# Altium footprint library PcbLib.PcbLib: 45 footprints (part 2 of 3)
Each footprint in its own frame and in the unit in brackets; x right, y up, seen from the top. Pads: shape width x height; smd on the part's side, far side on the other; paste and mask are expansions set on the pad; w line width, h text height; cw(c..) or ccw(c..) is an arc to the next point about the centre after c.
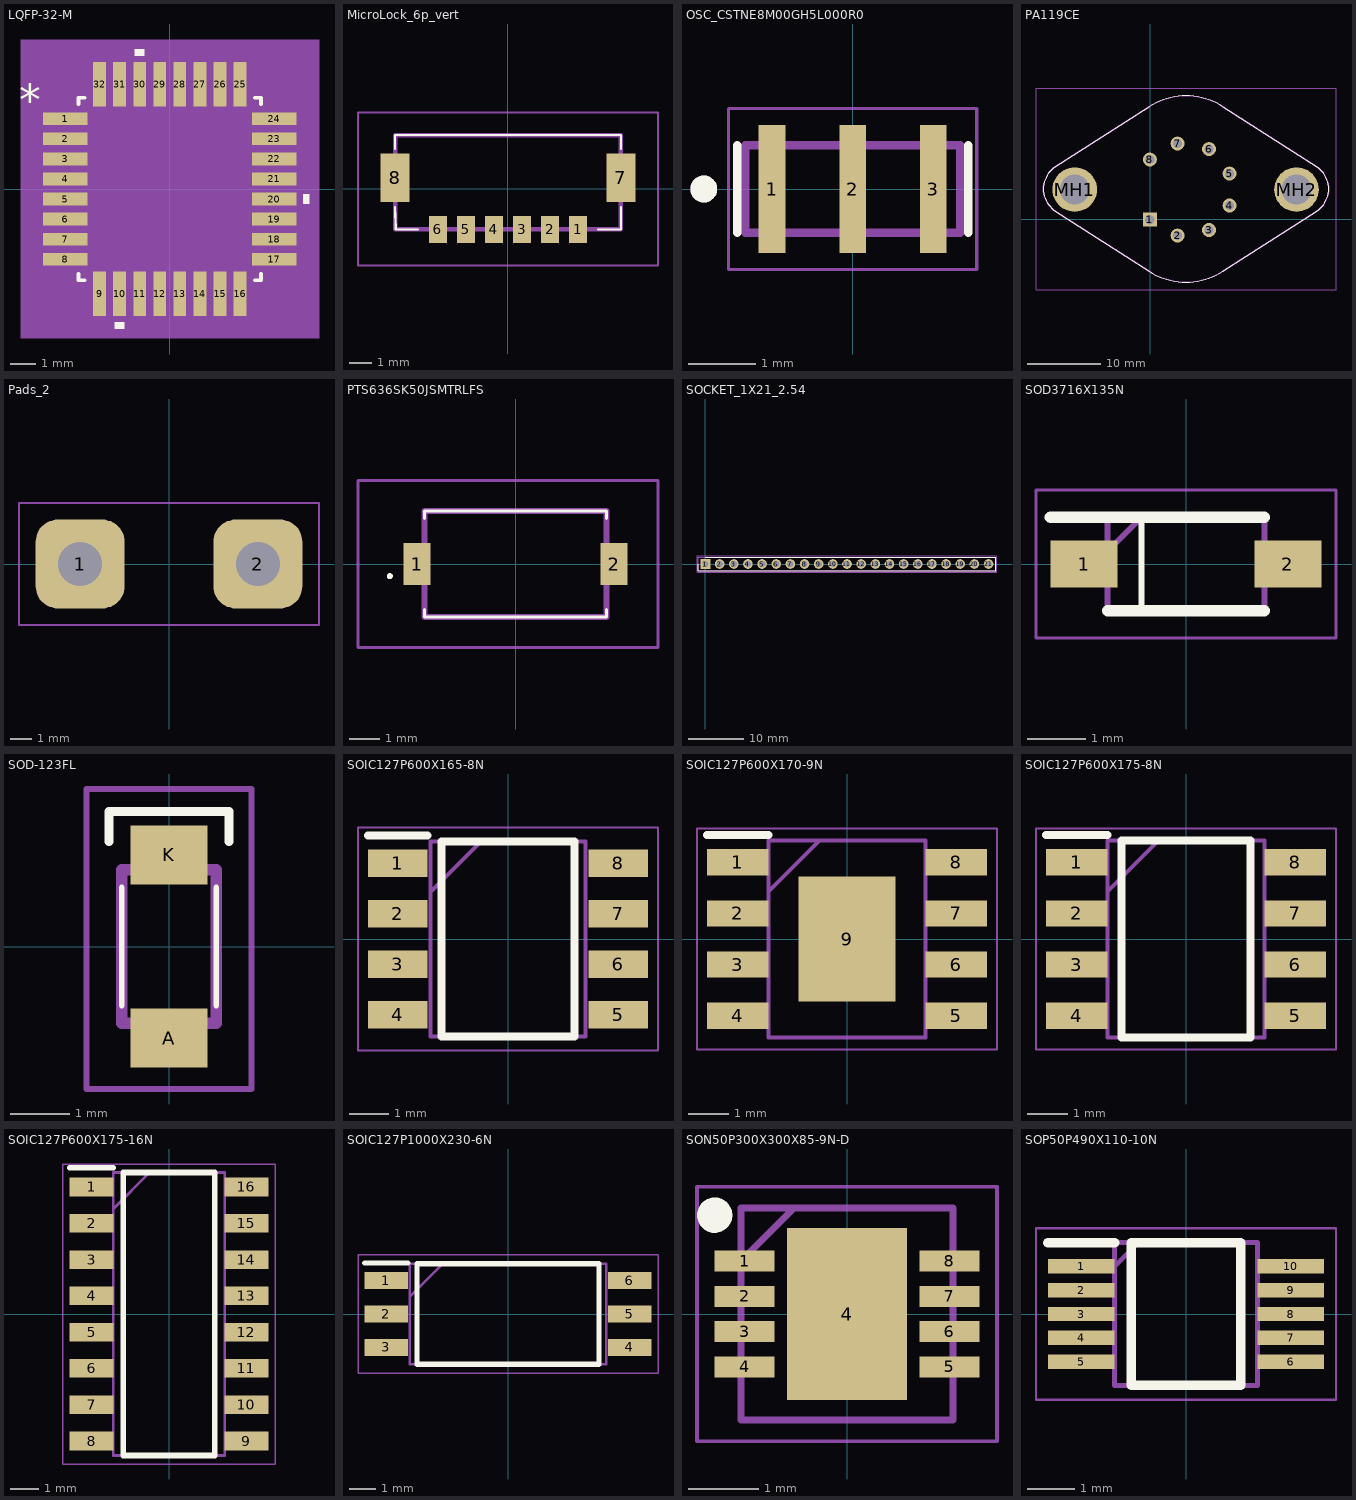
[diagram p1: the footprints below, top view; thin cyan lines are the x and y axes]

## LQFP-32-M [mil]
pads (32):
  rect 70x20 smd paste+0 mask+0: 1(-164,110.24) 2(-164,78.74) 3(-164,47.24) 4(-164,15.75) 5(-164,-15.75) 6(-164,-47.24) 7(-164,-78.74) 8(-164,-110.24) 17(164,-110.24) 18(164,-78.74) 19(164,-47.24) 20(164,-15.75) 21(164,15.75) 22(164,47.24) 23(164,78.74) 24(164,110.24)
  rect 20x70 smd paste+0 mask+0: 9(-110.24,-164) 10(-78.74,-164) 11(-47.24,-164) 12(-15.75,-164) 13(15.75,-164) 14(47.24,-164) 15(78.74,-164) 16(110.24,-164) 25(110.24,164) 26(78.74,164) 27(47.24,164) 28(15.75,164) 29(-15.75,164) 30(-47.24,164) 31(-78.74,164) 32(-110.24,164)
Top Overlay:
  region: -71.24,-209 -86.24,-209 -86.24,-219 -71.24,-219
  region: 209,-8.25 219,-8.25 219,-23.25 209,-23.25
  region: -39.74,209 -54.74,209 -54.74,219 -39.74,219
  lines w6: -143,-133.34 -143,-143 -133.34,-143 ; -143,133.34 -143,143 -133.34,143 ; 133.34,-143 143,-143 143,-133.34 ; 133.34,143 143,143 143,133.34
  text "*" at -236.5,115.98 h50
Mechanical 5:
  region: 234,-234 -234,-234 -234,234 234,234
Mechanical 13:
  lines w1: -138,88 -88,138 ; -177,-119.24 -177,-101.24 -138,-101.24 -138,-119.24 -177,-119.24 ; -177,-87.74 -177,-69.74 -138,-69.74 -138,-87.74 -177,-87.74 ; -177,-56.24 -177,-38.24 -138,-38.24 -138,-56.24 -177,-56.24 ; -177,-24.75 -177,-6.75 -138,-6.75 -138,-24.75 -177,-24.75 ; -177,6.75 -177,24.75 -138,24.75 -138,6.75 -177,6.75 ; -177,38.24 -177,56.24 -138,56.24 -138,38.24 -177,38.24 ; -177,69.74 -177,87.74 -138,87.74 -138,69.74 -177,69.74 ; -177,101.24 -177,119.24 -138,119.24 -138,101.24 -177,101.24 ; -138,-138 138,-138 138,138 -138,138 -138,-138 ; -119.24,-177 -119.24,-138 -101.24,-138 -101.24,-177 -119.24,-177 ; -119.24,138 -101.24,138 -101.24,177 -119.24,177 -119.24,138 ; -87.74,-177 -87.74,-138 -69.74,-138 -69.74,-177 -87.74,-177 ; -87.74,138 -69.74,138 -69.74,177 -87.74,177 -87.74,138 ; -56.24,-177 -56.24,-138 -38.24,-138 -38.24,-177 -56.24,-177 ; -56.24,138 -38.24,138 -38.24,177 -56.24,177 -56.24,138 ; -24.75,-177 -24.75,-138 -6.75,-138 -6.75,-177 -24.75,-177 ; -24.75,138 -6.75,138 -6.75,177 -24.75,177 -24.75,138 ; 6.75,-177 6.75,-138 24.75,-138 24.75,-177 6.75,-177 ; 6.75,138 24.75,138 24.75,177 6.75,177 6.75,138 ; 38.24,-177 38.24,-138 56.24,-138 56.24,-177 38.24,-177 ; 38.24,138 56.24,138 56.24,177 38.24,177 38.24,138 ; 69.74,-177 69.74,-138 87.74,-138 87.74,-177 69.74,-177 ; 69.74,138 87.74,138 87.74,177 69.74,177 69.74,138 ; 101.24,-177 101.24,-138 119.24,-138 119.24,-177 101.24,-177 ; 101.24,138 119.24,138 119.24,177 101.24,177 101.24,138 ; 138,-119.24 138,-101.24 177,-101.24 177,-119.24 138,-119.24 ; 138,-87.74 138,-69.74 177,-69.74 177,-87.74 138,-87.74 ; 138,-56.24 138,-38.24 177,-38.24 177,-56.24 138,-56.24 ; 138,-24.75 138,-6.75 177,-6.75 177,-24.75 138,-24.75 ; 138,6.75 138,24.75 177,24.75 177,6.75 138,6.75 ; 138,38.24 138,56.24 177,56.24 177,38.24 138,38.24 ; 138,69.74 138,87.74 177,87.74 177,69.74 138,69.74 ; 138,101.24 138,119.24 177,119.24 177,101.24 138,101.24
  text "*" at -135.5,100.98 h50
Mechanical 15:
  region: -140.24,-158 -158,-158 -158,-140.24 -219,-140.24 -219,140.24 -158,140.24 -158,158 -140.24,158 -140.24,219 140.24,219 140.24,158 158,158 158,140.24 219,140.24 219,-140.24 158,-140.24 158,-158 140.24,-158 140.24,-219 -140.24,-219
  lines w6: -219,-140.24 -158,-140.24 -158,-158 -140.24,-158 -140.24,-219 140.24,-219 140.24,-158 158,-158 158,-140.24 219,-140.24 219,140.24 158,140.24 158,158 140.24,158 140.24,219 -140.24,219 -140.24,158 -158,158 -158,140.24 -219,140.24 -219,-140.24
3D body: height 10, standoff 0, extent 0,0 10,10

## MicroLock_6p_vert [mm] "MOLEX Micro-Lock Plus 1.25mm 6pin Vertical"
pads (8):
  rect 0.8x1.2 smd: 1(3.125,-1.8) 2(1.875,-1.8) 3(0.625,-1.8) 4(-0.625,-1.8) 5(-1.875,-1.8) 6(-3.125,-1.8)
  rect 1.3x2.15 smd: 7(5.025,0.495) 8(-5.025,0.495)
Top Overlay:
  lines w0.1: -5.025,-0.8 -5,-1.8 -4,-1.8 ; -5.025,1.778 -5.025,2.4 5.025,2.4 5.025,1.778 ; 4,-1.8 5.025,-1.8 5.025,-0.8
Mechanical 15:
  lines w0.2: -5.025,-1.8 5.025,-1.8 5.025,2.4 -5.025,2.4 -5.025,-1.8
Mechanical 20:
  lines w0.1: -6.675,-3.4 6.675,-3.4 6.675,3.4 -6.675,3.4 -6.675,-3.4
3D body "5055680681.stp": height 4.2, standoff 0, extent -5.4,-2.025 5.35,1.875

## OSC_CSTNE8M00GH5L000R0 [mm]
pads (3):
  rect 0.4x1.9 smd: 1(-1.2,0) 2(0,0) 3(1.2,0)
Top Overlay:
  circle w0.2: c-2.22,0 r0.1
  lines w0.127: -1.72,-0.65 -1.72,0.65 ; 1.72,-0.65 1.72,0.65
Mechanical 13:
  circle w0.2: c-2.22,0 r0.1
  lines w0.127: -1.6,-0.65 -1.6,0.65 1.6,0.65 1.6,-0.65 -1.6,-0.65
Mechanical 15:
  lines w0.05: -1.85,-1.2 -1.85,1.2 1.85,1.2 1.85,-1.2 -1.85,-1.2
3D body "step_temp.STEP": height 0.8, standoff 0, extent -1.6,-0.65 1.6,0.65

## PA119CE [mm]
pads (10):
  rect 1.905x1.905 hole 1.27: 1(-0.051,-0.076)
  round 1.905 hole 1.27: 2(3.709,-2.246) 3(7.989,-1.496) 4(10.779,1.834) 5(10.779,6.174) 6(7.989,9.504) 7(3.709,10.254) 8(-0.051,8.084)
  round 6.06 hole 4.04: MH1(-10.261,4.004) MH2(19.879,4.004)
Top Overlay:
  lines w0.1: -12.892,7.078 ccw(c-10.96,4.08) -12.887,1.078 ; -12.89,1.08 -0.14,-7.12 ; -12.89,7.08 -0.14,15.28 ; -0.147,-7.115 ccw(c4.861,0.654) 9.854,-7.124 ; -0.133,15.284 cw(c4.861,7.505) 9.868,15.275 ; 9.86,-7.12 22.61,1.08 ; 9.86,15.28 22.61,7.08 ; 22.608,7.082 cw(c20.681,4.08) 22.613,1.082
Mechanical 13:
  lines w0.2: -12.892,7.078 ccw(c-10.96,4.08) -12.887,1.078 ; -12.89,1.08 -0.14,-7.12 ; -12.89,7.08 -0.14,15.28 ; -0.147,-7.115 ccw(c4.861,0.654) 9.854,-7.124 ; -0.133,15.284 cw(c4.861,7.505) 9.868,15.275 ; 9.86,-7.12 22.61,1.08 ; 9.86,15.28 22.61,7.08 ; 22.608,7.082 cw(c20.681,4.08) 22.613,1.082
Mechanical 15:
  lines w0.1: -15.527,-9.589 25.247,-9.589 25.247,17.749 -15.527,17.749 -15.527,-9.589
3D body "TO-3 8 pins.stp": height 22.86, standoff -23.29, extent -20.84,-16.597 31.822,27.077

## Pads_2 [mil] "2 Pads, hole 2mm"
pads (2):
  rrect50% 160x160 hole 78.74: 1(-160,0) 2(160,0)
Mechanical 15:
  lines w4: -270,-110 -270,110 270,110 270,-110 -270,-110

## PTS636SK50JSMTRLFS [mm]
pads (2):
  rect 0.9x1.4 smd: 1(-3.25,0) 2(3.25,0)
Top Overlay:
  lines w0.1: -3,-1.5 -3,-1.75 3,-1.75 3,-1.5 ; -3,1.5 -3,1.75 3,1.75 3,1.5 ; -4.2,-0.4 ccw(c-4.15,-0.4) -4.1,-0.4 ccw(c-4.15,-0.4) -4.2,-0.4
Mechanical 13:
  lines w0.2: -3,-1.75 3,-1.75 3,1.75 -3,1.75 -3,-1.75
Mechanical 15:
  lines w0.1: -5.2,-2.75 4.7,-2.75 4.7,2.75 -5.2,2.75 -5.2,-2.75
3D body "PTS636_SK50J_SMTR_LFS.stp": height 5.1, standoff 0, extent -3.61,-1.75 3.61,1.75

## SOCKET_1X21_2.54 [mm] "Socket connector 2.54mm"
pads (21):
  rect 1.725x1.725 hole 1.15: 1(0,0)
  round 1.725 hole 1.15: 2(2.54,0) 3(5.08,0) 4(7.62,0) 5(10.16,0) 6(12.7,0) 7(15.24,0) 8(17.78,0) 9(20.32,0) 10(22.86,0) 11(25.4,0) 12(27.94,0) 13(30.48,0) 14(33.02,0) 15(35.56,0) 16(38.1,0) 17(40.64,0) 18(43.18,0) 19(45.72,0) 20(48.26,0) 21(50.8,0)
Top Overlay:
  lines w0.2: -1.27,0 -1.27,-1.205 52.07,-1.205 52.07,1.205 0,1.205
Mechanical 13:
  lines w0.1: -1.27,-1.205 52.07,-1.205 52.07,1.205 -1.27,1.205 -1.27,-1.205
Mechanical 15:
  lines w0.05: -1.52,-1.455 52.32,-1.455 52.32,1.455 -1.52,1.455 -1.52,-1.455
3D body "zl262-8s_p2-54_l20-8_w2-54_h8-5.stp": height 8.5, standoff -3, extent -1.52,-1.27 19.3,1.27
3D body "zl262-8s_p2-54_l20-8_w2-54_h8-5.stp": height 8.5, standoff -3, extent 18.8,-1.27 39.62,1.27
3D body "zl262-8s_p2-54_l20-8_w2-54_h8-5.stp": height 8.5, standoff -3, extent 31.373,-1.27 52.193,1.27

## SOD3716X135N [mm]
pads (2):
  rect 1.15x0.8 smd: 1(-1.75,0) 2(1.75,0)
Top Overlay:
  lines w0.102: -0.762,-0.762 -0.762,0.762
  lines w0.2: -2.325,0.8 1.345,0.8 ; -1.345,-0.8 1.345,-0.8
Mechanical 13:
  lines w0.1: -1.345,0.225 -0.77,0.8 ; -1.345,-0.8 -1.345,0.8 1.345,0.8 1.345,-0.8 -1.345,-0.8
Mechanical 15:
  lines w0.05: -2.575,-1.27 -2.575,1.27 2.575,1.27 2.575,-1.27 -2.575,-1.27
3D body "MMSZ5240BT1G.stp": height 1.35, standoff 0, extent -1.855,-0.8 1.855,0.8

## SOD-123FL [mm] "Package 3.6x1.6"
pads (2):
  rect 1.3x1 smd: A(0,-1.55) K(0,1.55)
Top Overlay:
  lines w0.1: -0.8,-1 -0.8,1 ; 0.8,-1 0.8,1
  lines w0.152: -1.016,1.778 -1.016,2.286 0.889,2.286 1.016,2.286 1.016,1.778
Mechanical 13:
  lines w0.2: -0.8,-1.3 0.8,-1.3 0.8,1.3 -0.8,1.3 -0.8,-1.3
Mechanical 15:
  lines w0.102: -1.397,-2.413 1.397,-2.413 1.397,2.667 -1.397,2.667 -1.397,-2.413
3D body "RSX101MM-30TFTR.stp": height 1, standoff 0, extent -0.8,-1.865 0.8,1.865

## SOIC127P600X165-8N [mm]
pads (8):
  rect 1.5x0.7 smd: 1(-2.775,1.905) 2(-2.775,0.635) 3(-2.775,-0.635) 4(-2.775,-1.905) 5(2.775,-1.905) 6(2.775,-0.635) 7(2.775,0.635) 8(2.775,1.905)
Top Overlay:
  lines w0.2: -3.525,2.605 -2.025,2.605 ; -1.675,-2.45 -1.675,2.45 1.675,2.45 1.675,-2.45 -1.675,-2.45
Mechanical 13:
  lines w0.1: -1.95,1.18 -0.68,2.45 ; -1.95,-2.45 -1.95,2.45 1.95,2.45 1.95,-2.45 -1.95,-2.45
Mechanical 15:
  lines w0.05: -3.775,-2.8 -3.775,2.8 3.775,2.8 3.775,-2.8 -3.775,-2.8
3D body "BR25H256FJ-2ACE2.stp": height 1.65, standoff 0, extent -3,-2.45 3,2.45

## SOIC127P600X170-9N [mm]
pads (9):
  rect 1.525x0.65 smd: 1(-2.712,1.905) 2(-2.712,0.635) 3(-2.712,-0.635) 4(-2.712,-1.905) 5(2.712,-1.905) 6(2.712,-0.635) 7(2.712,0.635) 8(2.712,1.905)
  rect 2.4x3.1 smd: 9(0,0)
Top Overlay:
  lines w0.2: -3.475,2.58 -1.95,2.58
Mechanical 13:
  lines w0.1: -1.95,1.18 -0.68,2.45 ; -1.95,-2.45 1.95,-2.45 1.95,2.45 -1.95,2.45 -1.95,-2.45
Mechanical 15:
  lines w0.05: -3.725,-2.75 3.725,-2.75 3.725,2.75 -3.725,2.75 -3.725,-2.75
3D body "TPS259630DDAR.stp": height 1.7, standoff 0, extent -3,-2.45 3,2.45

## SOIC127P600X175-8N [mm]
pads (8):
  rect 1.525x0.65 smd: 1(-2.712,1.905) 2(-2.712,0.635) 3(-2.712,-0.635) 4(-2.712,-1.905) 5(2.712,-1.905) 6(2.712,-0.635) 7(2.712,0.635) 8(2.712,1.905)
Top Overlay:
  lines w0.2: -3.475,2.58 -1.95,2.58 ; -1.6,-2.45 1.6,-2.45 1.6,2.45 -1.6,2.45 -1.6,-2.45
Mechanical 13:
  lines w0.1: -1.95,1.18 -0.68,2.45 ; -1.95,-2.45 1.95,-2.45 1.95,2.45 -1.95,2.45 -1.95,-2.45
Mechanical 15:
  lines w0.05: -3.725,-2.75 3.725,-2.75 3.725,2.75 -3.725,2.75 -3.725,-2.75
3D body "NE555DR.stp": height 1.75, standoff 0, extent -3,-2.45 3,2.45

## SOIC127P600X175-16N [mm]
pads (16):
  rect 1.525x0.65 smd: 1(-2.712,4.445) 2(-2.712,3.175) 3(-2.712,1.905) 4(-2.712,0.635) 5(-2.712,-0.635) 6(-2.712,-1.905) 7(-2.712,-3.175) 8(-2.712,-4.445) 9(2.712,-4.445) 10(2.712,-3.175) 11(2.712,-1.905) 12(2.712,-0.635) 13(2.712,0.635) 14(2.712,1.905) 15(2.712,3.175) 16(2.712,4.445)
Top Overlay:
  lines w0.2: -3.475,5.12 -1.95,5.12 ; -1.6,-4.95 -1.6,4.95 1.6,4.95 1.6,-4.95 -1.6,-4.95
Mechanical 13:
  lines w0.1: -1.95,3.68 -0.68,4.95 ; -1.95,-4.95 -1.95,4.95 1.95,4.95 1.95,-4.95 -1.95,-4.95
Mechanical 15:
  lines w0.05: -3.725,-5.25 -3.725,5.25 3.725,5.25 3.725,-5.25 -3.725,-5.25
3D body "ADUM131E1BRZ.stp": height 1.75, standoff 0, extent -3,-4.95 3,4.95

## SOIC127P1000X230-6N [mm]
pads (6):
  rect 1.65x0.65 smd: 1(-4.65,1.27) 2(-4.65,0) 3(-4.65,-1.27) 4(4.65,-1.27) 5(4.65,0) 6(4.65,1.27)
Top Overlay:
  lines w0.2: -5.475,1.945 -3.825,1.945 ; -3.475,-1.92 3.475,-1.92 3.475,1.92 -3.475,1.92 -3.475,-1.92
Mechanical 13:
  lines w0.1: -3.75,0.65 -2.48,1.92 ; -3.75,-1.92 3.75,-1.92 3.75,1.92 -3.75,1.92 -3.75,-1.92
Mechanical 15:
  lines w0.05: -5.725,-2.27 5.725,-2.27 5.725,2.27 -5.725,2.27 -5.725,-2.27
3D body "TLP5754H_TP4,E.stp": height 2.3, standoff 0, extent -5,-1.92 5,1.92

## SON50P300X300X85-9N-D [mm]
pads (9):
  rect 0.85x0.3 smd: 1(-1.45,0.75) 2(-1.45,0.25) 3(-1.45,-0.25) 4(-1.45,-0.75) 5(1.45,-0.75) 6(1.45,-0.25) 7(1.45,0.25) 8(1.45,0.75)
  rect 1.7x2.44 smd: 4(0,0)
Top Overlay:
  circle w0.25: c-1.875,1.4 r0.125
Mechanical 13:
  lines w0.1: -1.5,0.75 -0.75,1.5 ; -1.5,-1.5 -1.5,1.5 1.5,1.5 1.5,-1.5 -1.5,-1.5
Mechanical 15:
  lines w0.05: -2.125,-1.8 -2.125,1.8 2.125,1.8 2.125,-1.8 -2.125,-1.8
3D body "ADA4084-2ACPZ-R7.stp": height 0.85, standoff 0, extent -1.55,-1.5 1.55,1.5

## SOP50P490X110-10N [mm]
pads (10):
  rect 1.4x0.3 smd: 1(-2.2,1) 2(-2.2,0.5) 3(-2.2,0) 4(-2.2,-0.5) 5(-2.2,-1) 6(2.2,-1) 7(2.2,-0.5) 8(2.2,0) 9(2.2,0.5) 10(2.2,1)
Top Overlay:
  lines w0.2: -2.9,1.5 -1.5,1.5 ; -1.15,-1.5 -1.15,1.5 1.15,1.5 1.15,-1.5 -1.15,-1.5
Mechanical 13:
  lines w0.1: -1.5,1 -1,1.5 ; -1.5,-1.5 -1.5,1.5 1.5,1.5 1.5,-1.5 -1.5,-1.5
Mechanical 15:
  lines w0.05: -3.15,-1.8 -3.15,1.8 3.15,1.8 3.15,-1.8 -3.15,-1.8
3D body "DAC80501MDGSR.stp": height 1.1, standoff 0, extent -2.45,-1.5 2.45,1.5